# Altium footprint library Desk lamp PCB.PcbLib: 16 footprints
Each footprint in its own frame and in the unit in brackets; x right, y up, seen from the top. Pads: shape width x height; smd on the part's side, far side on the other; paste and mask are expansions set on the pad; w line width, h text height; cw(c..) or ccw(c..) is an arc to the next point about the centre after c.
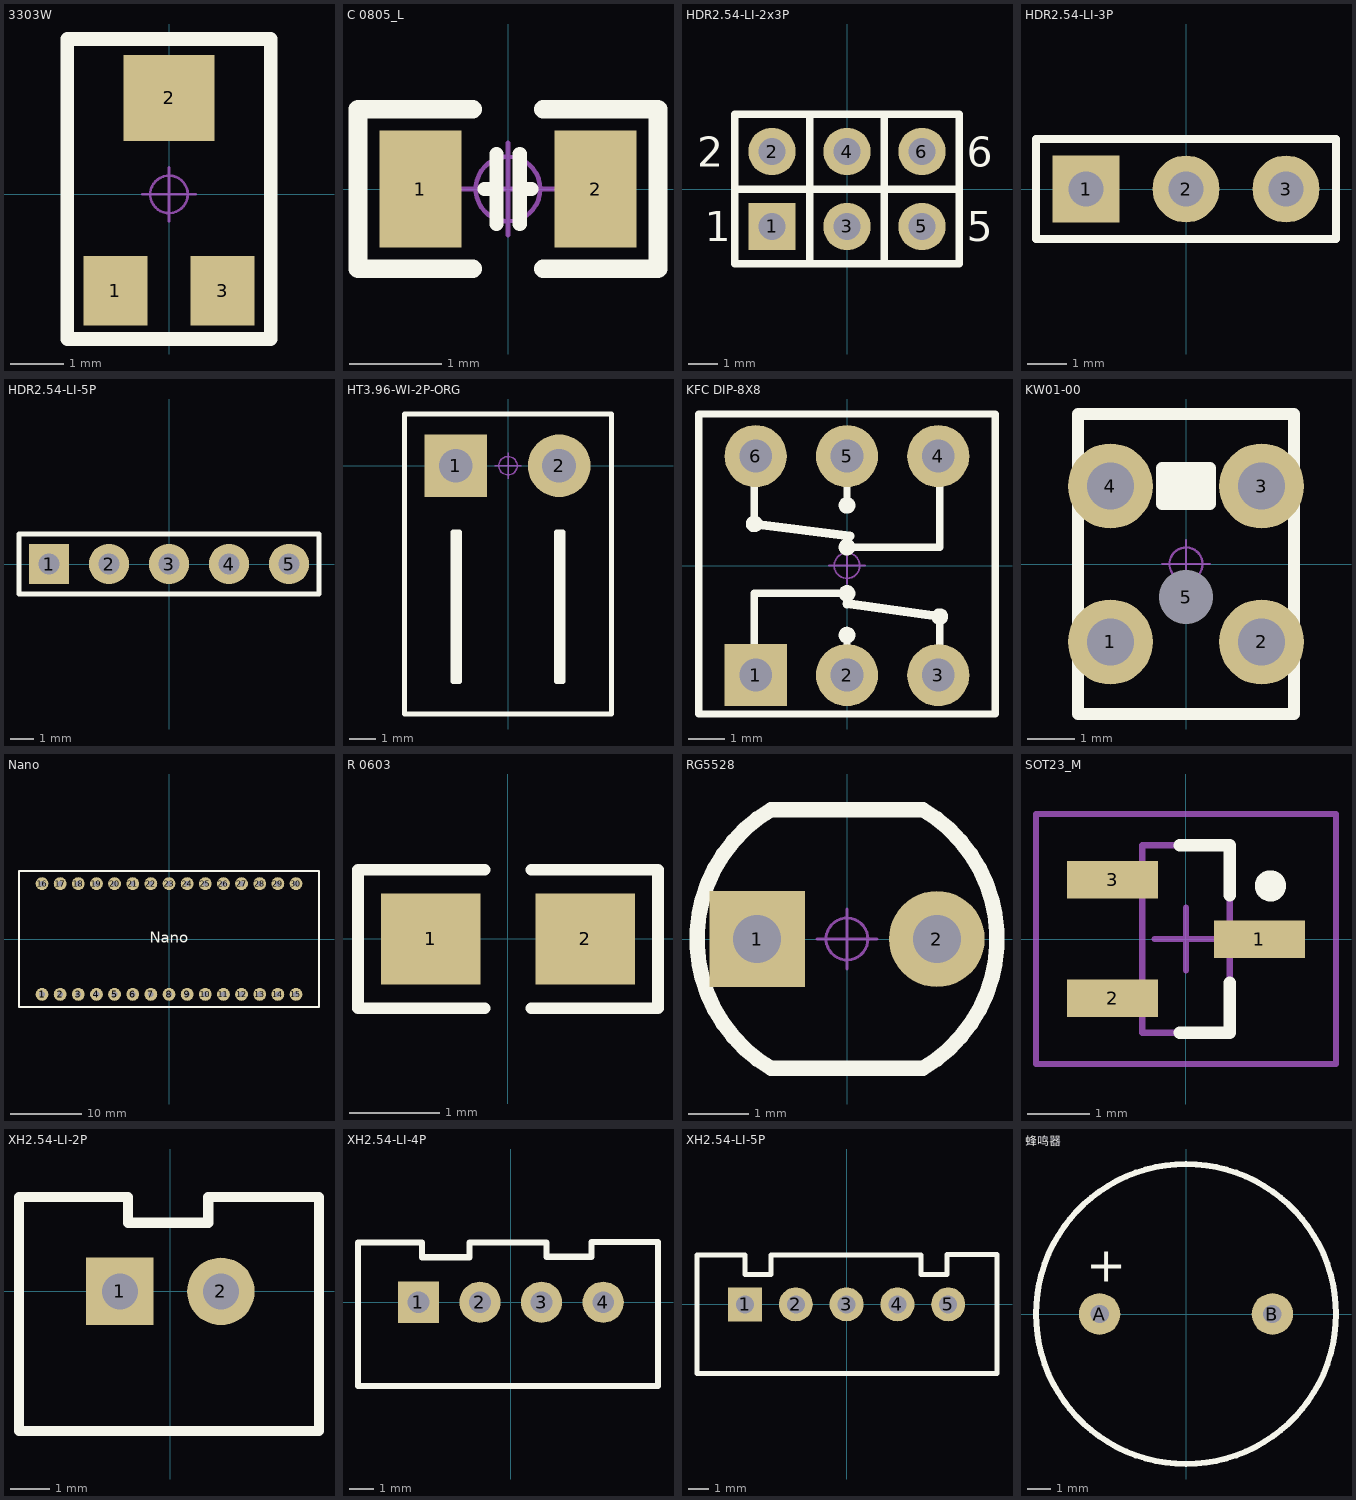
[diagram p0: the footprints below, top view; thin cyan lines are the x and y axes]

## 3303W [mm] "3.5*3.1*1.5mm"
pads (3):
  rect 1.2x1.3 smd: 1(-1,-1.8) 3(1,-1.8)
  rect 1.7x1.6 smd: 2(0,1.8)
Top Overlay:
  lines w0.254: -1.9,-2.7 -1.9,2.9 1.9,2.9 1.9,-2.7 -1.9,-2.7
Mechanical 15:
  circle w0.05: c0,0 r0.35
  lines w0.05: -0.5,0 0.5,0 ; 0,-0.5 0,0.5
3D body "3303W.STEP": height 1.45, standoff -0.01, extent -1.55,-2.055 1.55,2.05

## C 0805_L [mil] "无极性贴片电容"
height 19.68
pads (2):
  rect 35x50 smd: 1(-37.4,0) 2(37.4,0)
Top Overlay:
  lines w6: -10,0 -5,0 ; -5,-15 -5,15 ; 5,-15 5,15 ; 5,0 10,0
  lines w8: -15,-34 -64,-34 -64,34 -15,34 ; 15,-34 64,-34 64,34 15,34
Mechanical 15:
  circle w1.97: c0,0 r13.78
  circle w1.97: c0,0 r13.78
  lines w1.97: -19.68,0 19.68,0 -19.68,0 ; 0,-19.68 0,19.68 0,-19.68
3D body "C 0805.STEP": height 20.08, standoff -0.39, extent -39.37,-24.02 39.37,24.02

## HDR2.54-LI-2x3P [mm] "双排排针，3x2脚"
height 66.7
pads (6):
  rect 1.6x1.6 hole 0.9: 1(-2.54,-1.27)
  round 1.6 hole 0.9: 2(-2.54,1.27) 3(0,-1.27) 4(0,1.27) 5(2.54,-1.27) 6(2.54,1.27)
Top Overlay:
  lines w0.254: -3.81,0 3.81,0 ; -1.27,-2.54 -1.27,2.54 ; -1.058,-2.54 3.81,-2.54 ; 1.27,-2.54 1.27,2.54 ; 3.81,-2.54 3.81,2.54 ; 3.81,-2.54 -3.81,-2.54 -3.81,2.54 3.81,2.54 ; 3.81,-2.54 3.81,2.54
  text "6" at 4.064,0.762 h1.02
  text "5" at 4.064,-1.778 h1.02
  text "2" at -5.08,0.762 h1.02
  text "1" at -4.826,-1.778 h1.02
3D body "HDR2.54-1x2P.STEP": height 8.5, standoff -3, extent 1.27,-2.54 3.81,2.54
3D body "HDR2.54-1x2P.STEP": height 8.5, standoff -3, extent -3.81,-2.54 -1.27,2.54
3D body "HDR2.54-1x2P.STEP": height 8.5, standoff -3, extent -1.27,-2.54 1.27,2.54

## HDR2.54-LI-3P [mm] "排针，3脚"
pads (3):
  rect 1.7x1.7 hole 0.9: 1(-2.54,0)
  round 1.7 hole 0.9: 2(0,0) 3(2.54,0)
Top Overlay:
  lines w0.2: -3.81,-1.27 3.81,-1.27 3.81,1.27 -3.81,1.27 -3.81,-1.27
3D body "HDR2.54-1P.STEP": height 8.5, standoff -3, extent -3.81,-1.27 -1.27,1.27
3D body "HDR2.54-1P.STEP": height 8.5, standoff -3, extent -1.27,-1.27 1.27,1.27
3D body "HDR2.54-1P.STEP": height 8.5, standoff -3, extent 1.27,-1.27 3.81,1.27

## HDR2.54-LI-5P [mm] "排针，5脚"
height 66.7
pads (5):
  rect 1.7x1.7 hole 0.9: 1(-5.08,0)
  round 1.7 hole 0.9: 2(-2.54,0) 3(0,0) 4(2.54,0) 5(5.08,0)
Top Overlay:
  lines w0.2: -6.35,-1.27 -6.35,1.27 6.35,1.27 6.35,-1.27 -6.35,-1.27
3D body "HDR2.54-1P.STEP": height 8.5, standoff -3, extent 3.81,-1.27 6.35,1.27
3D body "HDR2.54-1P.STEP": height 8.5, standoff -3, extent -1.27,-1.27 1.27,1.27
3D body "HDR2.54-1P.STEP": height 8.5, standoff -3, extent 1.27,-1.27 3.81,1.27
3D body "HDR2.54-1P.STEP": height 8.5, standoff -3, extent -6.35,-1.27 -3.81,1.27
3D body "HDR2.54-1P.STEP": height 8.5, standoff -3, extent -3.81,-1.27 -1.27,1.27

## HT3.96-WI-2P-ORG [mm] "HT3.96卧插端子"
pads (2):
  rect 2.4x2.4 hole 1.3: 1(-2,0)
  round 2.4 hole 1.3: 2(1.96,0)
Top Overlay:
  lines w0.203: -1.98,-8.255 -1.98,-2.54 ; 1.98,-8.255 1.98,-2.54 ; -3.96,-9.5 -3.96,1.98 0,1.98 3.96,1.98 3.96,-9.5 0,-9.5 -3.96,-9.5 ; -2.107,-8.255 -2.107,-2.54 -1.853,-2.54 -1.853,-8.255 -2.107,-8.255 ; 1.853,-8.255 2.107,-8.255 2.107,-2.54 1.853,-2.54 1.853,-8.255
Mechanical 15:
  circle w0.05: c0,0 r0.35
  lines w0.05: -0.5,0 0.5,0 ; 0,-0.5 0,0.5
3D body "HT3.96-WI-1P-ORG.STEP": height 7.45, standoff -3.2, extent -0.06,-9.5 3.94,0.5
3D body "HT3.96-WI-1P-ORG.STEP": height 7.45, standoff -3.2, extent -4,-9.5 0,0.5

## KFC DIP-8X8 [mm] "自锁开关，规格：8*8mm"
pads (6):
  rect 1.7x1.7 hole 0.9: 1(-2.5,-3)
  round 1.7 hole 0.9: 2(0,-3) 3(2.5,-3) 4(2.5,3) 5(0,3) 6(-2.5,3)
Top Overlay:
  circle w0.254: c0,-0.762 r0.102
  circle w0.254: c0,0.508 r0.102
  circle w0.254: c2.54,-1.397 r0.102
  circle w0.254: c0,-1.905 r0.102
  circle w0.254: c0,1.651 r0.102
  circle w0.254: c-2.54,1.143 r0.102
  lines w0.2: -4.064,-4.064 -4.064,4.153 4.064,4.153 4.064,-4.064 -4.064,-4.064
  lines w0.203: -2.54,-3.048 -2.54,-0.762 0,-0.762 ; -2.54,1.143 -2.54,2.794 ; 0,-3.048 0,-1.771 ; 0,0.508 2.54,0.508 2.54,2.794 ; 0,1.6 0,2.794 ; 2.54,-3.048 2.54,-1.397
  lines w0.254: -2.54,1.143 0.076,0.813 ; 0,-1.041 2.54,-1.397
Mechanical 15:
  circle w0.05: c0,0 r0.35
  lines w0.05: -0.5,0 0.5,0 ; 0,-0.5 0,0.5
3D body "SLSW 8x8.STEP": height 13.1, standoff -3.2, extent -3.949,-3.949 4.051,4.051

## KW01-00 [mm] "长：6.4mm，宽：3.0mm，高：8.5mm"
height 66.7
pads (5):
  round 1.8 hole 1: 1(-1.6,-1.65) 2(1.6,-1.65) 3(1.6,1.65) 4(-1.6,1.65)
  round 1.1 hole 1.15 unplated: 5(0,-0.7)
Top Overlay:
  lines w0.254: -0.508,1.778 0.508,1.778 ; -0.381,1.524 0.508,1.524 ; -2.286,-3.175 -2.286,3.175 2.286,3.175 2.286,-3.175 -2.286,-3.175 ; -0.508,1.27 0.508,1.27 0.508,2.032 -0.508,2.032 -0.508,1.27
Mechanical 15:
  circle w0.05: c0,0 r0.35
  lines w0.05: -0.5,0 0.5,0 ; 0,-0.5 0,0.5
3D body "KW01-00.STEP": height 8.7, standoff -2.9, extent -2.128,-3 2.128,3

## Nano [mm]
height 20
pads (30):
  round 1.8 hole 0.8: 1(-17.78,-7.75) 2(-15.24,-7.75) 3(-12.7,-7.75) 4(-10.16,-7.75) 5(-7.62,-7.75) 6(-5.08,-7.75) 7(-2.54,-7.75) 8(0,-7.75) 9(2.54,-7.75) 10(5.08,-7.75) 11(7.62,-7.75) 12(10.16,-7.75) 13(12.7,-7.75) 14(15.24,-7.75) 15(17.78,-7.75) 16(-17.78,7.75) 17(-15.24,7.75) 18(-12.7,7.75) 19(-10.16,7.75) 20(-7.62,7.75) 21(-5.08,7.75) 22(-2.54,7.75) 23(0,7.75) 24(2.54,7.75) 25(5.08,7.75) 26(7.62,7.75) 27(10.16,7.75) 28(12.7,7.75) 29(15.24,7.75) 30(17.78,7.75)
Top Overlay:
  lines w0.254: -21,-9.5 -21,0 -21,9.5 21,9.5 21,-9.5 -21,-9.5
  text "Nano" at -2.667,-0.508 h1.52

## R 0603 [mm] "贴片带丝印"
height 0.6
pads (2):
  rect 1.1x1 smd: 1(-0.85,0) 2(0.85,0)
Top Overlay:
  lines w0.127: -0.254,-0.762 -1.651,-0.762 -1.651,0.762 -0.254,0.762 ; 0.254,-0.762 1.651,-0.762 1.651,0.762 0.254,0.762
3D body "R 0603.STEP": height 0.4, standoff 0, extent -0.8,-0.4 0.8,0.4

## RG5528 [mm] "光敏电阻 脚距：3mm"
pads (2):
  rect 1.6x1.6 hole 0.8: 1(-1.5,0)
  round 1.6 hole 0.8: 2(1.5,0)
Top Overlay:
  lines w0.254: -1.27,-2.159 cw(c0,0) -1.27,2.159 1.27,2.159 cw(c0,0) 1.27,-2.159 -1.27,-2.159
Mechanical 15:
  circle w0.05: c0,0 r0.35
  lines w0.05: -0.5,0 0.5,0 ; 0,-0.5 0,0.5
3D body "RG5528.STEP": height 1.9, standoff -3.45, extent -2.5,-2.15 2.5,2.15

## SOT23_M [mm] "SOT23, 3-Leads, Body 2.9x1.3mm, Pitch 0.95mm, Lead Span 2.3mm - Reverse Pinning, IPC Low Density"
height 1.1
pads (3):
  rect 1.45x0.6 smd: 1(1.175,0) 2(-1.175,-0.95) 3(-1.175,0.95)
Top Overlay:
  circle w0.25: c1.35,0.85 r0.125
  lines w0.2: -0.1,-1.5 0.7,-1.5 0.7,-0.7 ; -0.1,1.5 0.7,1.5 0.7,0.7
Mechanical 13:
  lines w0.1: -0.7,-1.5 -0.7,1.5 0.7,1.5 0.7,-1.5 -0.7,-1.5
Mechanical 15:
  lines w0.1: -0.5,0 0.5,0 ; 0,-0.5 0,0.5 ; -2.4,-2 -2.4,2 2.4,2 2.4,-2 -2.4,-2
3D body: height 1.1, standoff 0, extent -0.7,-1.5 0.7,1.5

## XH2.54-LI-2P [mm] "接插件，2P"
height 66.7
pads (2):
  rect 1.7x1.7 hole 0.9: 1(-1.27,0)
  round 1.7 hole 0.9: 2(1.27,0)
Top Overlay:
  lines w0.254: -3.807,-3.505 -3.807,2.37 -1.067,2.37 -1.067,1.727 0.953,1.727 0.953,2.37 2.954,2.37 3.736,2.37 3.736,-3.505 -3.807,-3.505
3D body "XH2.54-2P.STEP": height 7.05, standoff -2.45, extent -3.77,-3.3 3.77,2.4

## XH2.54-LI-4P [mm] "接插件，4P"
pads (4):
  rect 1.7x1.7 hole 0.9: 1(-3.81,0)
  round 1.7 hole 0.9: 2(-1.27,0) 3(1.27,0) 4(3.81,0)
Top Overlay:
  lines w0.254: -6.299,-3.454 6.071,-3.454 6.071,2.489 3.327,2.489 3.327,1.88 1.473,1.88 1.473,2.464 -1.702,2.464 -1.702,1.854 -3.658,1.854 -3.658,2.464 -6.299,2.464 -6.299,-3.454
3D body "XH2.54-4P.STEP": height 7.03, standoff -2.47, extent -6.31,-3.3 6.31,2.4

## XH2.54-LI-5P [mm] "接插件，5P"
height 66.7
pads (5):
  rect 1.7x1.7 hole 0.9: 1(-5.08,0)
  round 1.7 hole 0.9: 2(-2.54,0) 3(0,0) 4(2.54,0) 5(5.08,0)
Top Overlay:
  lines w0.254: -3.78,2.438 -3.78,1.5 -5.08,1.5 -5.08,2.464 -7.48,2.464 -7.48,-3.454 7.52,-3.454 7.52,2.489 5.02,2.489 5.02,1.5 3.72,1.5 3.72,2.464 -3.78,2.464
3D body "XH2.54-5P.STEP": height 7.03, standoff -2.47, extent -7.58,-3.3 7.58,2.4

## 蜂鸣器 [mm]
height 10
pads (2):
  round 1.8 hole 0.8: A(-3.746,0) B(3.746,0)
Top Overlay:
  circle w0.254: c0,0 r6.5
  text "+" at -4.318,1.397 h1.52